# Altium schematic symbol library Transformer EE85AA.SchLib: 1 symbol
Pins are listed as number, name and electrical type; pins without a type are passive.

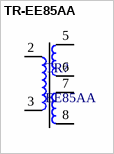
[diagram p0: symbol TR-EE85AA]

## TR-EE85AA
designator TR?, comment EE85AA
footprint EE84AA Hor
pins: 2, 3, 5, 6, 7, 8